# EAGLE library part EURORACK-POWER (library mmoretti)
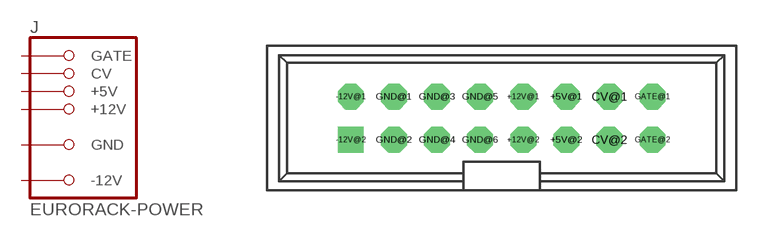
[diagram p24: symbol with the pads of PINSHRD_PTH_2X8; footprint PINSHRD_PTH_2X8]

Designator prefix J

## EURORACK-POWER  [PINSHRD_PTH_2X8]
+5V@1  +5V  pas
+5V@2  +5V  pas
+12V@1  +12V  pas
+12V@2  +12V  pas
-12V@1  -12V  pas
-12V@2  -12V  pas
CV@1  CV  pas
CV@2  CV  pas
GATE@1  GATE  pas
GATE@2  GATE  pas
GND@1  GND  pas
GND@2  GND  pas
GND@3  GND  pas
GND@4  GND  pas
GND@5  GND  pas
GND@6  GND  pas

## Footprint PINSHRD_PTH_2X8 (pad centres in mm)
drill 1.016 octagon: +5V@1 3.81,1.27; +5V@2 3.81,-1.27; +12V@1 1.27,1.27; +12V@2 1.27,-1.27; -12V@1 -8.89,1.27; CV@1 6.35,1.27; CV@2 6.35,-1.27; GATE@1 8.89,1.27; GATE@2 8.89,-1.27; GND@1 -6.35,1.27; GND@2 -6.35,-1.27; GND@3 -3.81,1.27; GND@4 -3.81,-1.27; GND@5 -1.27,1.27; GND@6 -1.27,-1.27
drill 1.016 square: -12V@2 -8.89,-1.27